# Altium footprint library Control point.PcbLib: 9 footprints
Each footprint in its own frame and in the unit in brackets; x right, y up, seen from the top. Pads: shape width x height; smd on the part's side, far side on the other; paste and mask are expansions set on the pad; w line width, h text height; cw(c..) or ccw(c..) is an arc to the next point about the centre after c.
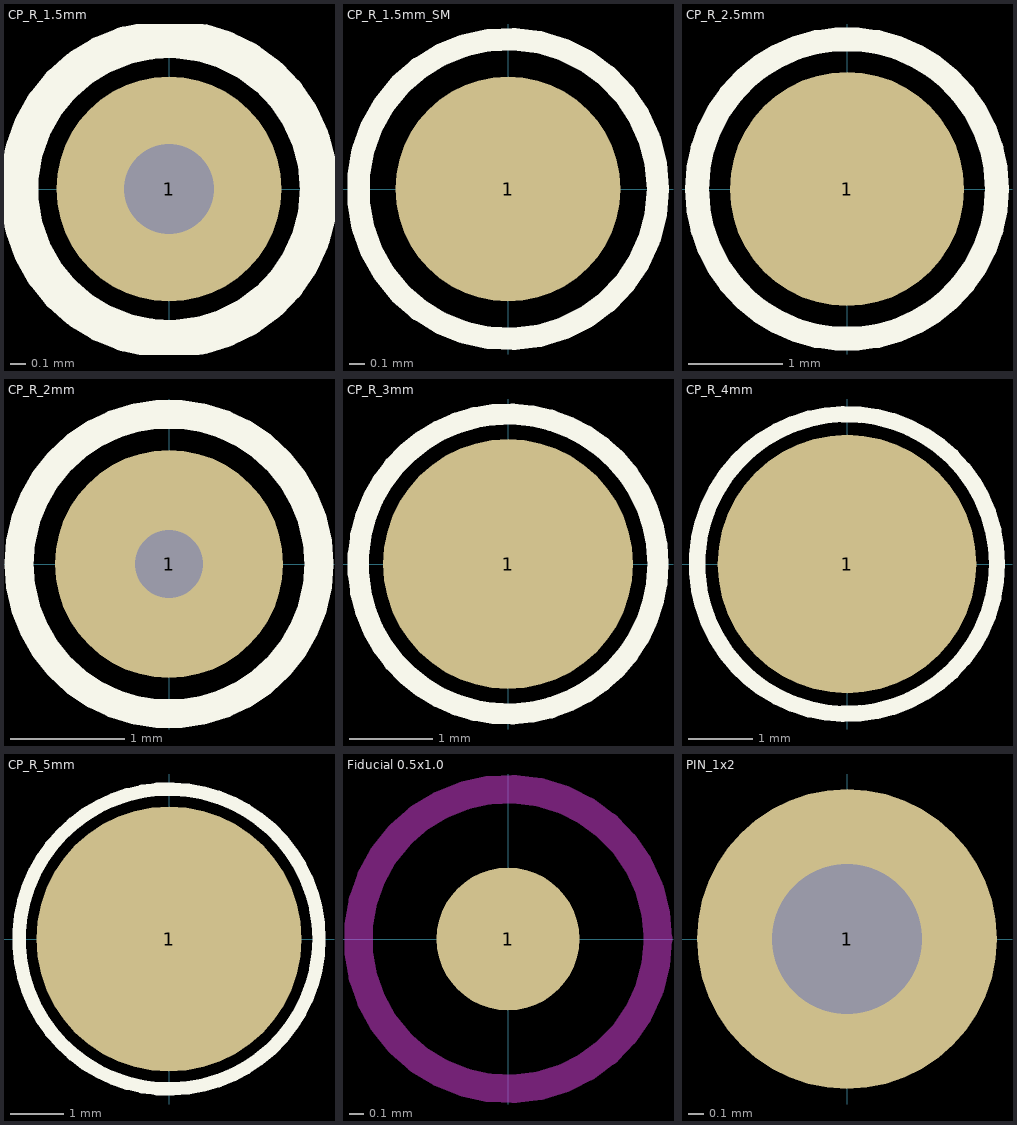
[diagram p0: the footprints below, top view; thin cyan lines are the x and y axes]

## CP_R_1.5mm [mm] "CP_R_1.5mm"
pads (1):
  round 1.5 hole 0.6: 1(0,0)
Top Overlay:
  circle w0.254: c0,0 r1

## CP_R_1.5mm_SM [mm] "CP_R_1.5mm_SM"
pads (1):
  round 1.5 smd: 1(0,0)
Top Overlay:
  circle w0.15: c0,0 r1

## CP_R_2.5mm [mm] "CP_R_2.5mm"
pads (1):
  round 2.5 smd: 1(0,0)
Top Overlay:
  circle w0.254: c0,0 r1.6

## CP_R_2mm [mm] "CP_R_2mm"
pads (1):
  round 2 hole 0.6 mask+0.2: 1(0,0)
Top Overlay:
  circle w0.254: c0,0 r1.315

## CP_R_3mm [mm] "CP_R_3mm"
pads (1):
  round 3 smd: 1(0,0)
Top Overlay:
  circle w0.254: c0,0 r1.8

## CP_R_4mm [mm] "CP_R_4mm"
pads (1):
  round 4 smd: 1(0,0)
Top Overlay:
  circle w0.254: c0,0 r2.319

## CP_R_5mm [mm] "CP_R_5mm"
pads (1):
  round 5 smd: 1(0,0)
Top Overlay:
  circle w0.254: c0,0 r2.828

## Fiducial 0.5x1.0 [mm] "Fiducial 0.5x1.0"
pads (1):
  round 1 smd paste-0.6 mask+0.75: 1(0,0)
Keep-Out Layer:
  circle w0.2: c0,0 r1.05

## PIN_1x2 [mm] "PIN_1x2"
pads (1):
  round 2 hole 1: 1(0,0)